# Altium footprint library StepperMotorController.PcbLib: 6 footprints
Each footprint in its own frame and in the unit in brackets; x right, y up, seen from the top. Pads: shape width x height; smd on the part's side, far side on the other; paste and mask are expansions set on the pad; w line width, h text height; cw(c..) or ccw(c..) is an arc to the next point about the centre after c.
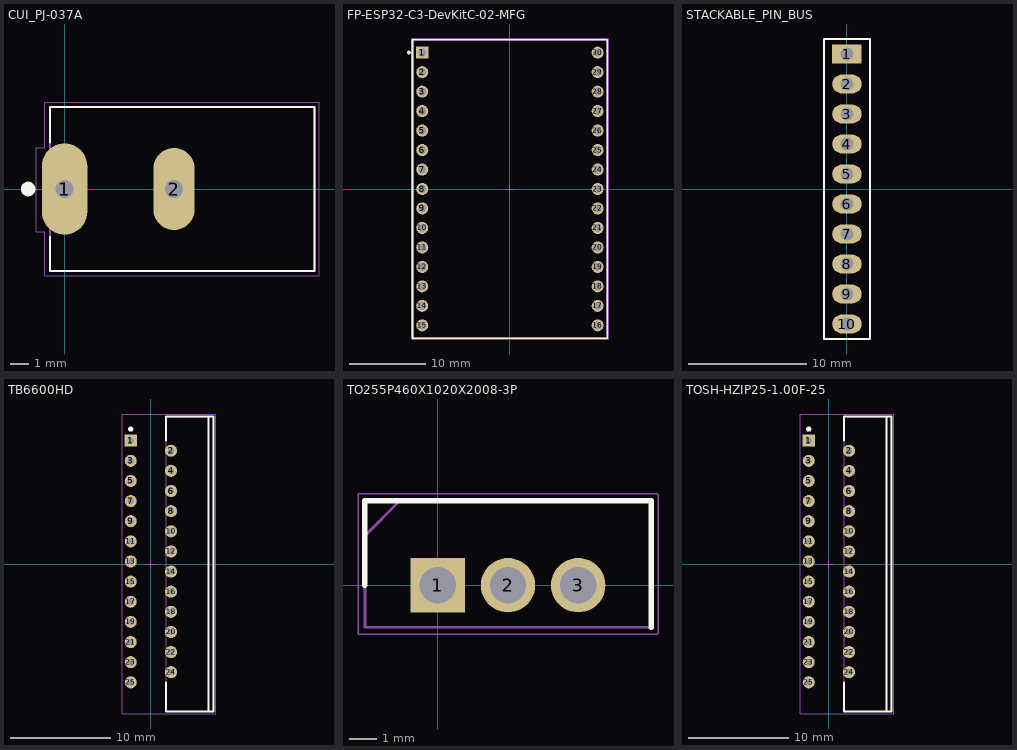
[diagram p0: the footprints below, top view; thin cyan lines are the x and y axes]

## CUI_PJ-037A [mm]
pads (2):
  oval 2.5x5 hole 1 square: 1(0,0)
  oval 2.25x4.5 hole 1 square: 2(6,0)
Top Overlay:
  circle w0.4: c-2,0 r0.2
  lines w0.127: -0.8,-2.65 -0.8,-4.5 13.7,-4.5 13.7,4.5 -0.8,4.5 -0.8,2.55
Mechanical 13:
  lines w0.127: -0.8,-4.5 13.7,-4.5 13.7,4.5 -0.8,4.5 -0.8,-4.5
Mechanical 15:
  lines w0.05: -1.55,-2.35 -1.55,2.25 -1.1,2.25 -1.1,4.75 13.95,4.75 13.95,-4.75 -1.1,-4.75 -1.1,-2.35 -1.55,-2.35
3D body "CUI_DEVICES_PJ-037A.step": height 11, standoff -3.49, extent -0.784,-4.5 13.716,4.5

## FP-ESP32-C3-DevKitC-02-MFG [mm]
pads (30):
  rect 1.57x1.57 hole 1.02 paste-2539.97 mask+0: 1(-11.43,17.78)
  round 1.57 hole 1.02 paste-2539.97 mask+0: 2(-11.43,15.24) 3(-11.43,12.7) 4(-11.43,10.16) 5(-11.43,7.62) 6(-11.43,5.08) 7(-11.43,2.54) 8(-11.43,0) 9(-11.43,-2.54) 10(-11.43,-5.08) 11(-11.43,-7.62) 12(-11.43,-10.16) 13(-11.43,-12.7) 14(-11.43,-15.24) 15(-11.43,-17.78) 16(11.43,-17.78) 17(11.43,-15.24) 18(11.43,-12.7) 19(11.43,-10.16) 20(11.43,-7.62) 21(11.43,-5.08) 22(11.43,-2.54) 23(11.43,0) 24(11.43,2.54) 25(11.43,5.08) 26(11.43,7.62) 27(11.43,10.16) 28(11.43,12.7) 29(11.43,15.24) 30(11.43,17.78)
Top Overlay:
  circle w0.25: c-13.175,17.78 r0.125
  lines w0.2: -12.7,-19.455 12.7,-19.455 12.7,19.455 -12.7,19.455 -12.7,-19.455
Top 3D Body:
  lines w0.2: -12.7,-19.455 12.7,-19.455 12.7,19.455 -12.7,19.455 -12.7,-19.455
Top Courtyard:
  lines w0.2: -12.8,-19.555 12.8,-19.555 12.8,19.555 -12.8,19.555 -12.8,-19.555
Top Assembly:
  lines w0.2: -12.8,-19.555 12.8,-19.555 12.8,19.555 -12.8,19.555 -12.8,-19.555
  text ".Designator" at 0,-0.001 h1
Top Component Center:
  lines w0.1: -0.5,0 0.5,0 ; 0,-0.5 0,0.5
3D body "UNK_Espressif_Systems_ESP32-C3-DevKitC-02_eec.STEP": height 0.25, standoff 0, extent -12.8,-19.555 12.8,19.555

## STACKABLE_PIN_BUS [mm]
pads (10):
  rect 2.5x1.6 hole 1.1: 1(0,11.43)
  oval 2.5x1.6 hole 1.1: 2(0,8.89) 3(0,6.35) 4(0,3.81) 5(0,1.27) 6(0,-1.27) 7(0,-3.81) 8(0,-6.35) 9(0,-8.89) 10(0,-11.43)
Top Overlay:
  lines w0.2: -1.94,-12.7 -1.94,12.7 1.95,12.7 1.95,-12.7 -1.94,-12.7
3D body "Pin bus x10.STEP": height 8, standoff -9, extent -1.245,-12.685 1.295,12.715

## TB6600HD [mm] "FM, 25-Leads, Body 4.5x29.3mm, Pitch 1mm"
height 19.17
pads (25):
  rect 1.2x1.2 hole 0.6: 1(-2,12.25)
  round 1.2 hole 0.6: 2(2,11.25) 3(-2,10.25) 4(2,9.25) 5(-2,8.25) 6(2,7.25) 7(-2,6.25) 8(2,5.25) 9(-2,4.25) 10(2,3.25) 11(-2,2.25) 12(2,1.25) 13(-2,0.25) 14(2,-0.75) 15(-2,-1.75) 16(2,-2.75) 17(-2,-3.75) 18(2,-4.75) 19(-2,-5.75) 20(2,-6.75) 21(-2,-7.75) 22(2,-8.75) 23(-2,-9.75) 24(2,-10.75) 25(-2,-11.75)
Top Overlay:
  circle w0.25: c-2,13.4 r0.125
  lines w0.2: 1.525,-11.75 1.525,-14.65 6.225,-14.65 6.225,14.65 1.525,14.65 1.525,12.25 ; 5.725,-14.65 5.725,14.65
Mechanical 13:
  lines w0.1: 6.2,-14.65 6.2,14.65 ; 6.2,-14.65 1.55,-14.65 1.55,14.65 6.2,14.65 ; 6.2,-14.65 6.2,14.65
Mechanical 15:
  lines w0.05: -2.85,-14.9 -2.85,14.9 6.45,14.9 6.45,-14.9 -2.85,-14.9
  lines w0.1: -0.5,0 0.5,0 ; 0,-0.5 0,0.5
3D body: height 1.43, standoff 0, extent -2.21,11.9 -1.79,12.6
3D body: height 1.85, standoff 1.43, extent -2.21,11.9 4.085,12.6
3D body: height 3.27, standoff 1.85, extent 3.665,11.9 4.085,12.6
3D body: height 0, standoff -1.6, extent -2.21,12.015 -1.79,12.485
3D body: height 1.43, standoff 0, extent 1.79,10.9 2.21,11.6
3D body: height 1.85, standoff 1.43, extent 1.79,10.9 4.085,11.6
3D body: height 3.27, standoff 1.85, extent 3.665,10.9 4.085,11.6
3D body: height 0, standoff -1.6, extent 1.79,11.015 2.21,11.485
3D body: height 1.43, standoff 0, extent -2.21,9.9 -1.79,10.6
3D body: height 1.85, standoff 1.43, extent -2.21,9.9 4.085,10.6
3D body: height 3.27, standoff 1.85, extent 3.665,9.9 4.085,10.6
3D body: height 0, standoff -1.6, extent -2.21,10.015 -1.79,10.485
3D body: height 1.43, standoff 0, extent 1.79,8.9 2.21,9.6
3D body: height 1.85, standoff 1.43, extent 1.79,8.9 4.085,9.6
3D body: height 3.27, standoff 1.85, extent 3.665,8.9 4.085,9.6
3D body: height 0, standoff -1.6, extent 1.79,9.015 2.21,9.485
3D body: height 1.43, standoff 0, extent -2.21,7.9 -1.79,8.6
3D body: height 1.85, standoff 1.43, extent -2.21,7.9 4.085,8.6
3D body: height 3.27, standoff 1.85, extent 3.665,7.9 4.085,8.6
3D body: height 0, standoff -1.6, extent -2.21,8.015 -1.79,8.485
3D body: height 1.43, standoff 0, extent 1.79,6.9 2.21,7.6
3D body: height 1.85, standoff 1.43, extent 1.79,6.9 4.085,7.6
3D body: height 3.27, standoff 1.85, extent 3.665,6.9 4.085,7.6
3D body: height 0, standoff -1.6, extent 1.79,7.015 2.21,7.485
3D body: height 1.43, standoff 0, extent -2.21,5.9 -1.79,6.6
3D body: height 1.85, standoff 1.43, extent -2.21,5.9 4.085,6.6
3D body: height 3.27, standoff 1.85, extent 3.665,5.9 4.085,6.6
3D body: height 0, standoff -1.6, extent -2.21,6.015 -1.79,6.485
3D body: height 1.43, standoff 0, extent 1.79,4.9 2.21,5.6
3D body: height 1.85, standoff 1.43, extent 1.79,4.9 4.085,5.6
3D body: height 3.27, standoff 1.85, extent 3.665,4.9 4.085,5.6
3D body: height 0, standoff -1.6, extent 1.79,5.015 2.21,5.485
3D body: height 1.43, standoff 0, extent -2.21,3.9 -1.79,4.6
3D body: height 1.85, standoff 1.43, extent -2.21,3.9 4.085,4.6
3D body: height 3.27, standoff 1.85, extent 3.665,3.9 4.085,4.6
3D body: height 0, standoff -1.6, extent -2.21,4.015 -1.79,4.485
3D body: height 1.43, standoff 0, extent 1.79,2.9 2.21,3.6
3D body: height 1.85, standoff 1.43, extent 1.79,2.9 4.085,3.6
3D body: height 3.27, standoff 1.85, extent 3.665,2.9 4.085,3.6
3D body: height 0, standoff -1.6, extent 1.79,3.015 2.21,3.485
3D body: height 1.43, standoff 0, extent -2.21,1.9 -1.79,2.6
3D body: height 1.85, standoff 1.43, extent -2.21,1.9 4.085,2.6
3D body: height 3.27, standoff 1.85, extent 3.665,1.9 4.085,2.6
3D body: height 0, standoff -1.6, extent -2.21,2.015 -1.79,2.485
3D body: height 1.43, standoff 0, extent 1.79,0.9 2.21,1.6
3D body: height 1.85, standoff 1.43, extent 1.79,0.9 4.085,1.6
3D body: height 3.27, standoff 1.85, extent 3.665,0.9 4.085,1.6
3D body: height 0, standoff -1.6, extent 1.79,1.015 2.21,1.485
3D body: height 1.43, standoff 0, extent -2.21,-0.1 -1.79,0.6
3D body: height 1.85, standoff 1.43, extent -2.21,-0.1 4.085,0.6
3D body: height 3.27, standoff 1.85, extent 3.665,-0.1 4.085,0.6
3D body: height 0, standoff -1.6, extent -2.21,0.015 -1.79,0.485
3D body: height 1.43, standoff 0, extent 1.79,-1.1 2.21,-0.4
3D body: height 1.85, standoff 1.43, extent 1.79,-1.1 4.085,-0.4
3D body: height 3.27, standoff 1.85, extent 3.665,-1.1 4.085,-0.4
3D body: height 0, standoff -1.6, extent 1.79,-0.985 2.21,-0.515
3D body: height 1.43, standoff 0, extent -2.21,-2.1 -1.79,-1.4
3D body: height 1.85, standoff 1.43, extent -2.21,-2.1 4.085,-1.4
3D body: height 3.27, standoff 1.85, extent 3.665,-2.1 4.085,-1.4
3D body: height 0, standoff -1.6, extent -2.21,-1.985 -1.79,-1.515
3D body: height 1.43, standoff 0, extent 1.79,-3.1 2.21,-2.4
3D body: height 1.85, standoff 1.43, extent 1.79,-3.1 4.085,-2.4
3D body: height 3.27, standoff 1.85, extent 3.665,-3.1 4.085,-2.4
3D body: height 0, standoff -1.6, extent 1.79,-2.985 2.21,-2.515
3D body: height 1.43, standoff 0, extent -2.21,-4.1 -1.79,-3.4
3D body: height 1.85, standoff 1.43, extent -2.21,-4.1 4.085,-3.4
3D body: height 3.27, standoff 1.85, extent 3.665,-4.1 4.085,-3.4
3D body: height 0, standoff -1.6, extent -2.21,-3.985 -1.79,-3.515
3D body: height 1.43, standoff 0, extent 1.79,-5.1 2.21,-4.4
3D body: height 1.85, standoff 1.43, extent 1.79,-5.1 4.085,-4.4
3D body: height 3.27, standoff 1.85, extent 3.665,-5.1 4.085,-4.4
3D body: height 0, standoff -1.6, extent 1.79,-4.985 2.21,-4.515
3D body: height 1.43, standoff 0, extent -2.21,-6.1 -1.79,-5.4
3D body: height 1.85, standoff 1.43, extent -2.21,-6.1 4.085,-5.4
3D body: height 3.27, standoff 1.85, extent 3.665,-6.1 4.085,-5.4
3D body: height 0, standoff -1.6, extent -2.21,-5.985 -1.79,-5.515
3D body: height 1.43, standoff 0, extent 1.79,-7.1 2.21,-6.4
3D body: height 1.85, standoff 1.43, extent 1.79,-7.1 4.085,-6.4
3D body: height 3.27, standoff 1.85, extent 3.665,-7.1 4.085,-6.4
3D body: height 0, standoff -1.6, extent 1.79,-6.985 2.21,-6.515
3D body: height 1.43, standoff 0, extent -2.21,-8.1 -1.79,-7.4
3D body: height 1.85, standoff 1.43, extent -2.21,-8.1 4.085,-7.4
3D body: height 3.27, standoff 1.85, extent 3.665,-8.1 4.085,-7.4
3D body: height 0, standoff -1.6, extent -2.21,-7.985 -1.79,-7.515
3D body: height 1.43, standoff 0, extent 1.79,-9.1 2.21,-8.4
3D body: height 1.85, standoff 1.43, extent 1.79,-9.1 4.085,-8.4
3D body: height 3.27, standoff 1.85, extent 3.665,-9.1 4.085,-8.4
3D body: height 0, standoff -1.6, extent 1.79,-8.985 2.21,-8.515
3D body: height 1.43, standoff 0, extent -2.21,-10.1 -1.79,-9.4
3D body: height 1.85, standoff 1.43, extent -2.21,-10.1 4.085,-9.4
3D body: height 3.27, standoff 1.85, extent 3.665,-10.1 4.085,-9.4
3D body: height 0, standoff -1.6, extent -2.21,-9.985 -1.79,-9.515
3D body: height 1.43, standoff 0, extent 1.79,-11.1 2.21,-10.4
3D body: height 1.85, standoff 1.43, extent 1.79,-11.1 4.085,-10.4
3D body: height 3.27, standoff 1.85, extent 3.665,-11.1 4.085,-10.4
3D body: height 0, standoff -1.6, extent 1.79,-10.985 2.21,-10.515
3D body: height 1.43, standoff 0, extent -2.21,-12.1 -1.79,-11.4
3D body: height 1.85, standoff 1.43, extent -2.21,-12.1 4.085,-11.4
3D body: height 3.27, standoff 1.85, extent 3.665,-12.1 4.085,-11.4
3D body: height 0, standoff -1.6, extent -2.21,-11.985 -1.79,-11.515
3D body: height 19.37, standoff 3.27, extent 1.55,-14.65 6.2,14.65
3D body: height 19.17, standoff 19.17, extent 6.2,-14.65 6.2,14.65

## TO255P460X1020X2008-3P [mm]
pads (3):
  rect 1.98x1.98 / inner round 1.98 / far side rect 1.98x1.98 hole 1.32: 1(0,0)
  round 1.98 hole 1.32: 2(2.55,0) 3(5.1,0)
Top Overlay:
  lines w0.2: -2.65,0 -2.65,3.07 7.75,3.07 7.75,-1.53
Mechanical 15:
  lines w0.1: -2.65,1.795 -1.375,3.07 ; -2.65,-1.53 -2.65,3.07 7.75,3.07 7.75,-1.53 -2.65,-1.53
Mechanical 20:
  lines w0.05: -2.9,-1.78 -2.9,3.32 8,3.32 8,-1.78 -2.9,-1.78
3D body "L7805CV.stp": height 19.22, standoff -18.2, extent -2.55,-1.53 7.65,3.07

## TOSH-HZIP25-1.00F-25 [mm] "FM, 25-Leads, Body 4.5x29.3mm, Pitch 1mm"
height 19.17
pads (25):
  rect 1.2x1.2 hole 0.6: 1(-2,12.25)
  round 1.2 hole 0.6: 2(2,11.25) 3(-2,10.25) 4(2,9.25) 5(-2,8.25) 6(2,7.25) 7(-2,6.25) 8(2,5.25) 9(-2,4.25) 10(2,3.25) 11(-2,2.25) 12(2,1.25) 13(-2,0.25) 14(2,-0.75) 15(-2,-1.75) 16(2,-2.75) 17(-2,-3.75) 18(2,-4.75) 19(-2,-5.75) 20(2,-6.75) 21(-2,-7.75) 22(2,-8.75) 23(-2,-9.75) 24(2,-10.75) 25(-2,-11.75)
Top Overlay:
  circle w0.25: c-2,13.4 r0.125
  lines w0.2: 1.525,-11.75 1.525,-14.65 6.225,-14.65 6.225,14.65 1.525,14.65 1.525,12.25 ; 5.725,-14.65 5.725,14.65
Mechanical 13:
  lines w0.1: 6.2,-14.65 6.2,14.65 ; 6.2,-14.65 1.55,-14.65 1.55,14.65 6.2,14.65 ; 6.2,-14.65 6.2,14.65
Mechanical 15:
  lines w0.05: -2.85,-14.9 6.45,-14.9 6.45,14.9 -2.85,14.9 -2.85,-14.9
  lines w0.1: -0.5,0 0.5,0 ; 0,-0.5 0,0.5
3D body: height 19.17, standoff 19.17, extent 6.2,-14.65 6.2,14.65
3D body: height 19.37, standoff 3.27, extent 1.55,-14.65 6.2,14.65
3D body: height 0, standoff -1.6, extent -2.21,-11.985 -1.79,-11.515
3D body: height 3.27, standoff 1.85, extent 3.665,-12.1 4.085,-11.4
3D body: height 1.85, standoff 1.43, extent -2.21,-12.1 4.085,-11.4
3D body: height 1.43, standoff 0, extent -2.21,-12.1 -1.79,-11.4
3D body: height 0, standoff -1.6, extent 1.79,-10.985 2.21,-10.515
3D body: height 3.27, standoff 1.85, extent 3.665,-11.1 4.085,-10.4
3D body: height 1.85, standoff 1.43, extent 1.79,-11.1 4.085,-10.4
3D body: height 1.43, standoff 0, extent 1.79,-11.1 2.21,-10.4
3D body: height 0, standoff -1.6, extent -2.21,-9.985 -1.79,-9.515
3D body: height 3.27, standoff 1.85, extent 3.665,-10.1 4.085,-9.4
3D body: height 1.85, standoff 1.43, extent -2.21,-10.1 4.085,-9.4
3D body: height 1.43, standoff 0, extent -2.21,-10.1 -1.79,-9.4
3D body: height 0, standoff -1.6, extent 1.79,-8.985 2.21,-8.515
3D body: height 3.27, standoff 1.85, extent 3.665,-9.1 4.085,-8.4
3D body: height 1.85, standoff 1.43, extent 1.79,-9.1 4.085,-8.4
3D body: height 1.43, standoff 0, extent 1.79,-9.1 2.21,-8.4
3D body: height 0, standoff -1.6, extent -2.21,-7.985 -1.79,-7.515
3D body: height 3.27, standoff 1.85, extent 3.665,-8.1 4.085,-7.4
3D body: height 1.85, standoff 1.43, extent -2.21,-8.1 4.085,-7.4
3D body: height 1.43, standoff 0, extent -2.21,-8.1 -1.79,-7.4
3D body: height 0, standoff -1.6, extent 1.79,-6.985 2.21,-6.515
3D body: height 3.27, standoff 1.85, extent 3.665,-7.1 4.085,-6.4
3D body: height 1.85, standoff 1.43, extent 1.79,-7.1 4.085,-6.4
3D body: height 1.43, standoff 0, extent 1.79,-7.1 2.21,-6.4
3D body: height 0, standoff -1.6, extent -2.21,-5.985 -1.79,-5.515
3D body: height 3.27, standoff 1.85, extent 3.665,-6.1 4.085,-5.4
3D body: height 1.85, standoff 1.43, extent -2.21,-6.1 4.085,-5.4
3D body: height 1.43, standoff 0, extent -2.21,-6.1 -1.79,-5.4
3D body: height 0, standoff -1.6, extent 1.79,-4.985 2.21,-4.515
3D body: height 3.27, standoff 1.85, extent 3.665,-5.1 4.085,-4.4
3D body: height 1.85, standoff 1.43, extent 1.79,-5.1 4.085,-4.4
3D body: height 1.43, standoff 0, extent 1.79,-5.1 2.21,-4.4
3D body: height 0, standoff -1.6, extent -2.21,-3.985 -1.79,-3.515
3D body: height 3.27, standoff 1.85, extent 3.665,-4.1 4.085,-3.4
3D body: height 1.85, standoff 1.43, extent -2.21,-4.1 4.085,-3.4
3D body: height 1.43, standoff 0, extent -2.21,-4.1 -1.79,-3.4
3D body: height 0, standoff -1.6, extent 1.79,-2.985 2.21,-2.515
3D body: height 3.27, standoff 1.85, extent 3.665,-3.1 4.085,-2.4
3D body: height 1.85, standoff 1.43, extent 1.79,-3.1 4.085,-2.4
3D body: height 1.43, standoff 0, extent 1.79,-3.1 2.21,-2.4
3D body: height 0, standoff -1.6, extent -2.21,-1.985 -1.79,-1.515
3D body: height 3.27, standoff 1.85, extent 3.665,-2.1 4.085,-1.4
3D body: height 1.85, standoff 1.43, extent -2.21,-2.1 4.085,-1.4
3D body: height 1.43, standoff 0, extent -2.21,-2.1 -1.79,-1.4
3D body: height 0, standoff -1.6, extent 1.79,-0.985 2.21,-0.515
3D body: height 3.27, standoff 1.85, extent 3.665,-1.1 4.085,-0.4
3D body: height 1.85, standoff 1.43, extent 1.79,-1.1 4.085,-0.4
3D body: height 1.43, standoff 0, extent 1.79,-1.1 2.21,-0.4
3D body: height 0, standoff -1.6, extent -2.21,0.015 -1.79,0.485
3D body: height 3.27, standoff 1.85, extent 3.665,-0.1 4.085,0.6
3D body: height 1.85, standoff 1.43, extent -2.21,-0.1 4.085,0.6
3D body: height 1.43, standoff 0, extent -2.21,-0.1 -1.79,0.6
3D body: height 0, standoff -1.6, extent 1.79,1.015 2.21,1.485
3D body: height 3.27, standoff 1.85, extent 3.665,0.9 4.085,1.6
3D body: height 1.85, standoff 1.43, extent 1.79,0.9 4.085,1.6
3D body: height 1.43, standoff 0, extent 1.79,0.9 2.21,1.6
3D body: height 0, standoff -1.6, extent -2.21,2.015 -1.79,2.485
3D body: height 3.27, standoff 1.85, extent 3.665,1.9 4.085,2.6
3D body: height 1.85, standoff 1.43, extent -2.21,1.9 4.085,2.6
3D body: height 1.43, standoff 0, extent -2.21,1.9 -1.79,2.6
3D body: height 0, standoff -1.6, extent 1.79,3.015 2.21,3.485
3D body: height 3.27, standoff 1.85, extent 3.665,2.9 4.085,3.6
3D body: height 1.85, standoff 1.43, extent 1.79,2.9 4.085,3.6
3D body: height 1.43, standoff 0, extent 1.79,2.9 2.21,3.6
3D body: height 0, standoff -1.6, extent -2.21,4.015 -1.79,4.485
3D body: height 3.27, standoff 1.85, extent 3.665,3.9 4.085,4.6
3D body: height 1.85, standoff 1.43, extent -2.21,3.9 4.085,4.6
3D body: height 1.43, standoff 0, extent -2.21,3.9 -1.79,4.6
3D body: height 0, standoff -1.6, extent 1.79,5.015 2.21,5.485
3D body: height 3.27, standoff 1.85, extent 3.665,4.9 4.085,5.6
3D body: height 1.85, standoff 1.43, extent 1.79,4.9 4.085,5.6
3D body: height 1.43, standoff 0, extent 1.79,4.9 2.21,5.6
3D body: height 0, standoff -1.6, extent -2.21,6.015 -1.79,6.485
3D body: height 3.27, standoff 1.85, extent 3.665,5.9 4.085,6.6
3D body: height 1.85, standoff 1.43, extent -2.21,5.9 4.085,6.6
3D body: height 1.43, standoff 0, extent -2.21,5.9 -1.79,6.6
3D body: height 0, standoff -1.6, extent 1.79,7.015 2.21,7.485
3D body: height 3.27, standoff 1.85, extent 3.665,6.9 4.085,7.6
3D body: height 1.85, standoff 1.43, extent 1.79,6.9 4.085,7.6
3D body: height 1.43, standoff 0, extent 1.79,6.9 2.21,7.6
3D body: height 0, standoff -1.6, extent -2.21,8.015 -1.79,8.485
3D body: height 3.27, standoff 1.85, extent 3.665,7.9 4.085,8.6
3D body: height 1.85, standoff 1.43, extent -2.21,7.9 4.085,8.6
3D body: height 1.43, standoff 0, extent -2.21,7.9 -1.79,8.6
3D body: height 0, standoff -1.6, extent 1.79,9.015 2.21,9.485
3D body: height 3.27, standoff 1.85, extent 3.665,8.9 4.085,9.6
3D body: height 1.85, standoff 1.43, extent 1.79,8.9 4.085,9.6
3D body: height 1.43, standoff 0, extent 1.79,8.9 2.21,9.6
3D body: height 0, standoff -1.6, extent -2.21,10.015 -1.79,10.485
3D body: height 3.27, standoff 1.85, extent 3.665,9.9 4.085,10.6
3D body: height 1.85, standoff 1.43, extent -2.21,9.9 4.085,10.6
3D body: height 1.43, standoff 0, extent -2.21,9.9 -1.79,10.6
3D body: height 0, standoff -1.6, extent 1.79,11.015 2.21,11.485
3D body: height 3.27, standoff 1.85, extent 3.665,10.9 4.085,11.6
3D body: height 1.85, standoff 1.43, extent 1.79,10.9 4.085,11.6
3D body: height 1.43, standoff 0, extent 1.79,10.9 2.21,11.6
3D body: height 0, standoff -1.6, extent -2.21,12.015 -1.79,12.485
3D body: height 3.27, standoff 1.85, extent 3.665,11.9 4.085,12.6
3D body: height 1.85, standoff 1.43, extent -2.21,11.9 4.085,12.6
3D body: height 1.43, standoff 0, extent -2.21,11.9 -1.79,12.6